# Altium schematic symbol library Analog Devices Amplifiers and Linear Voltage References.SchLib: 547 symbols (part 6 of 20)
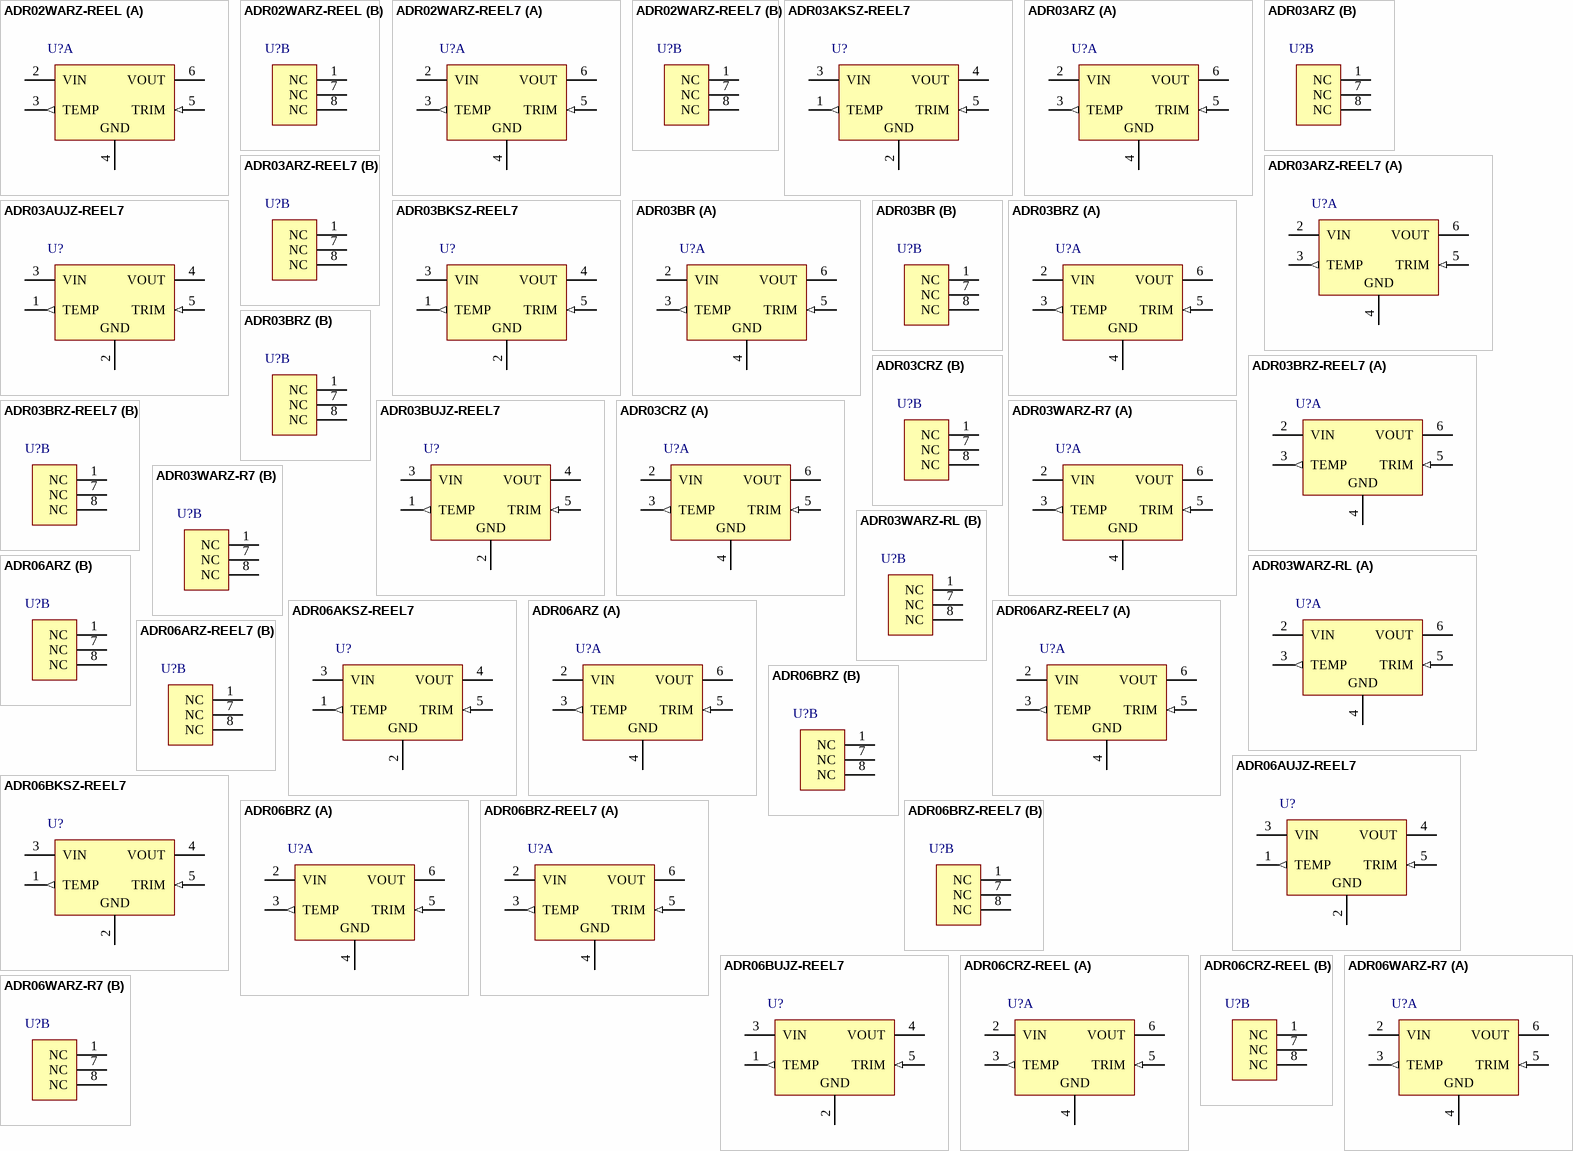
[diagram p25: symbols ADR02WARZ-REEL to ADR06WARZ-R7]

## ADR03BRZ-REEL7
designator U?
Ultracompact, Precision Voltage Reference, 2.5 V Output, 4.5 to 36 V Supply, Industrial, 8-pin SOIC (R-8), Reel; Manufacturer: Analog Devices; PartNumber: ADR03BRZ-REEL7; Max V Supply (V): 36; Min V Supply (V): 4.5; Ref Out TC (ppm/C): 1; Vout: 2.5V; DatasheetVersion: Rev. R; PackageVersion: 060506-A, 06/2006; PackageReference: R-8; PackageDescription: 8-Pin Standard Small Outline Package, Body 4.9 x 3.9 mm, Pitch 1.27 mm; Supplier 1: Digi-Key; Supplier Part Number 1: ADR03BRZ-REEL7-ND; Supplier 2: Mouser; Supplier Part Number 2: 584-ADR03BRZ-R7; Packing: Reel; Operating Temp Range: -40 to 125 degC; Mounting Technology: Surface Mount; Code_JEDEC: MS-012-AA; ComponentLink1Description: Manufacturer URL; ComponentLink1URL: http://www.analog.com/en/index.html; ComponentLink2Description: Datasheet; ComponentLink2URL: http://www.analog.com/static/imported-files/data_sheets/ADR01_02_03_06.pdf; ComponentLink3Description: Package Specification; ComponentLink3URL: http://www.analog.com/static/imported-files/packages/PKG_PDF/SOIC_Narrow%20(R)/R_8.pdf; ComponentLink4Description: URL Link1; ComponentLink4URL: Product URL:http://www.analog.com/en/special-linear-functions/voltage-references/adr03/products/product.html
footprint ADI-R-8_N (SOIC, 8-Leads, Body 4.9x3.9mm, Pitch 1.27mm, IPC Medium Density)
footprint ADI-R-8_L (SOIC, 8-Leads, Body 4.9x3.9mm, Pitch 1.27mm, IPC High Density)
footprint ADI-R-8_M (SOIC, 8-Leads, Body 4.9x3.9mm, Pitch 1.27mm, IPC Low Density)
part A pins: 2 VIN (power), 3 TEMP (out), 4 GND (power), 5 TRIM (in), 6 VOUT (power)
part B pins: 1 NC, 7 NC, 8 NC

## ADR03BUJZ-REEL7
designator U?
Ultracompact, Precision Voltage Reference, 2.5 V Output, 4.5 to 36 V Supply, Industrial, 5-pin SOT23 (UJ-5), Reel; Manufacturer: Analog Devices; PartNumber: ADR03BUJZ-REEL7; Max V Supply (V): 36; Min V Supply (V): 4.5; Ref Out TC (ppm/C): 1; Vout: 2.5V; DatasheetVersion: Rev. R; PackageVersion: 100708-A, 10/2008; PackageReference: UJ-5; PackageDescription: 5-Pin Thin Small Outline Transistor Package, Body 2.9 x 1.6 mm, Pitch 0.95 mm; Supplier 1: Digi-Key; Supplier Part Number 1: ADR03BUJZ-REEL7TR-ND; Supplier 2: Digi-Key; Supplier Part Number 2: ADR03BUJZ-REEL7CT-ND; Supplier 3: Digi-Key; Supplier Part Number 3: ADR03BUJZ-REEL7DKR-ND; Supplier 4: Farnell; Supplier Part Number 4: 2314106; Supplier 5: Farnell; Supplier Part Number 5: 2370358; Supplier 6: Mouser; Supplier Part Number 6: 584-ADR03BUJZ-R7; Packing: Reel; Operating Temp Range: -40 to 125 degC; Mounting Technology: Surface Mount; Code_JEDEC: MO-193-AB; ComponentLink1Description: Manufacturer URL; ComponentLink1URL: http://www.analog.com/en/index.html; ComponentLink2Description: Datasheet; ComponentLink2URL: http://www.analog.com/static/imported-files/data_sheets/ADR01_02_03_06.pdf; ComponentLink3Description: Package Specification; ComponentLink3URL: http:/www.analog.com/static/imported-files/packages/PKG_PDF/TSOT(UJ)/UJ_5.pdf; ComponentLink4Description: URL Link1; ComponentLink4URL: Product URL:http://www.analog.com/en/special-linear-functions/voltage-references/adr03/products/product.html
footprint ADI-UJ-5_N (SOT23, 5-Leads, Body 2.9x1.6mm, Pitch 0.95mm, IPC Medium Density)
footprint ADI-UJ-5_L (SOT23, 5-Leads, Body 2.9x1.6mm, Pitch 0.95mm, IPC High Density)
footprint ADI-UJ-5_M (SOT23, 5-Leads, Body 2.9x1.6mm, Pitch 0.95mm, IPC Low Density)
pins: 1 TEMP (out), 2 GND (power), 3 VIN (power), 4 VOUT (power), 5 TRIM (in)

## ADR03CRZ
designator U?
Ultracompact, Precision Voltage Reference, 2.5 V Output, 4.5 to 36 V Supply, Industrial, 8-pin SOIC (R-8), Tube; Manufacturer: Analog Devices; PartNumber: ADR03CRZ; Max V Supply (V): 36; Min V Supply (V): 4.5; Ref Out TC (ppm/C): 10; Vout: 2.5V; DatasheetVersion: Rev. R; PackageVersion: 060506-A, 06/2006; PackageReference: R-8; PackageDescription: 8-Pin Standard Small Outline Package, Body 4.9 x 3.9 mm, Pitch 1.27 mm; Supplier 1: Mouser; Supplier Part Number 1: N/A; Packing: Tube; Operating Temp Range: -40 to 125 degC; Mounting Technology: Surface Mount; Code_JEDEC: MS-012-AA; ComponentLink1Description: Manufacturer URL; ComponentLink1URL: http://www.analog.com/en/index.html; ComponentLink2Description: Datasheet; ComponentLink2URL: http://www.analog.com/static/imported-files/data_sheets/ADR01_02_03_06.pdf; ComponentLink3Description: Package Specification; ComponentLink3URL: http://www.analog.com/static/imported-files/packages/PKG_PDF/SOIC_Narrow%20(R)/R_8.pdf; ComponentLink4Description: URL Link1; ComponentLink4URL: Product URL:http://www.analog.com/en/special-linear-functions/voltage-references/adr03/products/product.html
footprint ADI-R-8_N (SOIC, 8-Leads, Body 4.9x3.9mm, Pitch 1.27mm, IPC Medium Density)
footprint ADI-R-8_L (SOIC, 8-Leads, Body 4.9x3.9mm, Pitch 1.27mm, IPC High Density)
footprint ADI-R-8_M (SOIC, 8-Leads, Body 4.9x3.9mm, Pitch 1.27mm, IPC Low Density)
part A pins: 2 VIN (power), 3 TEMP (out), 4 GND (power), 5 TRIM (in), 6 VOUT (power)
part B pins: 1 NC, 7 NC, 8 NC

## ADR03WARZ-R7
designator U?
Ultracompact, Precision Voltage Reference, 2.5 V Output, 4.5 to 36 V Supply, Automotive, 8-pin SOIC (R-8), Reel; Manufacturer: Analog Devices; PartNumber: ADR03WARZ-R7; Max V Supply (V): 36; Min V Supply (V): 4.5; Ref Out TC (ppm/C): 3; Vout: 2.5V; DatasheetVersion: Rev. R; PackageVersion: 060506-A, 06/2006; PackageReference: R-8; PackageDescription: 8-Pin Standard Small Outline Package, Body 4.9 x 3.9 mm, Pitch 1.27 mm; Supplier 1: Digi-Key; Supplier Part Number 1: ADR03WARZ-R7TR-ND; Supplier 2: Digi-Key; Supplier Part Number 2: ADR03WARZ-R7CT-ND; Supplier 3: Digi-Key; Supplier Part Number 3: ADR03WARZ-R7DKR-ND; Supplier 4: Mouser; Supplier Part Number 4: 584-ADR03WARZ-R7; Packing: Reel; Operating Temp Range: -40 to 125 degC; Mounting Technology: Surface Mount; Code_JEDEC: MS-012-AA; ComponentLink1Description: Manufacturer URL; ComponentLink1URL: http://www.analog.com/en/index.html; ComponentLink2Description: Datasheet; ComponentLink2URL: http://www.analog.com/static/imported-files/data_sheets/ADR01_02_03_06.pdf; ComponentLink3Description: Package Specification; ComponentLink3URL: http://www.analog.com/static/imported-files/packages/PKG_PDF/SOIC_Narrow%20(R)/R_8.pdf; ComponentLink4Description: URL Link1; ComponentLink4URL: Product URL:http://www.analog.com/en/special-linear-functions/voltage-references/adr03/products/product.html
footprint ADI-R-8_N (SOIC, 8-Leads, Body 4.9x3.9mm, Pitch 1.27mm, IPC Medium Density)
footprint ADI-R-8_L (SOIC, 8-Leads, Body 4.9x3.9mm, Pitch 1.27mm, IPC High Density)
footprint ADI-R-8_M (SOIC, 8-Leads, Body 4.9x3.9mm, Pitch 1.27mm, IPC Low Density)
part A pins: 2 VIN (power), 3 TEMP (out), 4 GND (power), 5 TRIM (in), 6 VOUT (power)
part B pins: 1 NC, 7 NC, 8 NC

## ADR03WARZ-RL
designator U?
Ultracompact, Precision Voltage Reference, 2.5 V Output, 4.5 to 36 V Supply, Automotive, 8-pin SOIC (R-8), Reel; Manufacturer: Analog Devices; PartNumber: ADR03WARZ-RL; Max V Supply (V): 36; Min V Supply (V): 4.5; Ref Out TC (ppm/C): 3; Vout: 2.5V; DatasheetVersion: Rev. R; PackageVersion: 060506-A, 06/2006; PackageReference: R-8; PackageDescription: 8-Pin Standard Small Outline Package, Body 4.9 x 3.9 mm, Pitch 1.27 mm; Supplier 1: Digi-Key; Supplier Part Number 1: ADR03WARZ-RLTR-ND; Supplier 2: Digi-Key; Supplier Part Number 2: ADR03WARZ-RLCT-ND; Supplier 3: Digi-Key; Supplier Part Number 3: ADR03WARZ-RLDKR-ND; Supplier 4: Mouser; Supplier Part Number 4: 584-ADR03WARZ-R; Packing: Reel; Operating Temp Range: -40 to 125 degC; Mounting Technology: Surface Mount; Code_JEDEC: MS-012-AA; ComponentLink1Description: Manufacturer URL; ComponentLink1URL: http://www.analog.com/en/index.html; ComponentLink2Description: Datasheet; ComponentLink2URL: http://www.analog.com/static/imported-files/data_sheets/ADR01_02_03_06.pdf; ComponentLink3Description: Package Specification; ComponentLink3URL: http://www.analog.com/static/imported-files/packages/PKG_PDF/SOIC_Narrow%20(R)/R_8.pdf; ComponentLink4Description: URL Link1; ComponentLink4URL: Product URL:http://www.analog.com/en/special-linear-functions/voltage-references/adr03/products/product.html
footprint ADI-R-8_N (SOIC, 8-Leads, Body 4.9x3.9mm, Pitch 1.27mm, IPC Medium Density)
footprint ADI-R-8_L (SOIC, 8-Leads, Body 4.9x3.9mm, Pitch 1.27mm, IPC High Density)
footprint ADI-R-8_M (SOIC, 8-Leads, Body 4.9x3.9mm, Pitch 1.27mm, IPC Low Density)
part A pins: 2 VIN (power), 3 TEMP (out), 4 GND (power), 5 TRIM (in), 6 VOUT (power)
part B pins: 1 NC, 7 NC, 8 NC

## ADR06AKSZ-REEL7
designator U?
Ultracompact, Precision Voltage Reference, 3 V Output, 5 to 36 V Supply, Industrial, 5-pin SOT23 (KS-5), Reel; Manufacturer: Analog Devices; PartNumber: ADR06AKSZ-REEL7; Max V Supply (V): 36; Min V Supply (V): 5; Ref Out TC (ppm/C): 3; Vout: 3V; DatasheetVersion: Rev. R; PackageVersion: 072809-A, 07/2009; PackageReference: KS-5; PackageDescription: 5-Pin Thin Shrink Small Outline Transistor Package, Body 2 x 1.25 mm, Pitch 0.65 mm; Supplier 1: Digi-Key; Supplier Part Number 1: ADR06AKSZ-REEL7TR-ND; Supplier 2: Digi-Key; Supplier Part Number 2: ADR06AKSZ-REEL7CT-ND; Supplier 3: Digi-Key; Supplier Part Number 3: ADR06AKSZ-REEL7DKR-ND; Supplier 4: Farnell; Supplier Part Number 4: 2312905; Supplier 5: Mouser; Supplier Part Number 5: 584-ADR06AKSZ-R7; Packing: Reel; Operating Temp Range: -40 to 125 degC; Mounting Technology: Surface Mount; Code_JEDEC: MO-203-AA; ComponentLink1Description: Manufacturer URL; ComponentLink1URL: http://www.analog.com/en/index.html; ComponentLink2Description: Datasheet; ComponentLink2URL: http://www.analog.com/static/imported-files/data_sheets/ADR01_02_03_06.pdf; ComponentLink3Description: Package Specification; ComponentLink3URL: http://www.analog.com/static/imported-files/packages/PKG_PDF/SC70(KS)/KS_5.pdf; ComponentLink4Description: URL Link1; ComponentLink4URL: Product URL:http://www.analog.com/en/special-linear-functions/voltage-references/adr06/products/product.html
footprint ADI-KS-5_N (SOT23, 5-Leads, Body 2x1.25mm, Pitch 0.65mm, IPC Medium Density)
footprint ADI-KS-5_L (SOT23, 5-Leads, Body 2x1.25mm, Pitch 0.65mm, IPC High Density)
footprint ADI-KS-5_M (SOT23, 5-Leads, Body 2x1.25mm, Pitch 0.65mm, IPC Low Density)
pins: 1 TEMP (out), 2 GND (power), 3 VIN (power), 4 VOUT (power), 5 TRIM (in)

## ADR06ARZ
designator U?
Ultracompact, Precision Voltage Reference, 3 V Output, 5 to 36 V Supply, Industrial, 8-pin SOIC (R-8), Tube; Manufacturer: Analog Devices; PartNumber: ADR06ARZ; Max V Supply (V): 36; Min V Supply (V): 5; Ref Out TC (ppm/C): 3; Vout: 3V; DatasheetVersion: Rev. R; PackageVersion: 060506-A, 06/2006; PackageReference: R-8; PackageDescription: 8-Pin Standard Small Outline Package, Body 4.9 x 3.9 mm, Pitch 1.27 mm; Supplier 1: Digi-Key; Supplier Part Number 1: ADR06ARZ-ND; Supplier 2: Farnell; Supplier Part Number 2: 2305772; Supplier 3: Mouser; Supplier Part Number 3: 584-ADR06ARZ; Packing: Tube; Operating Temp Range: -40 to 125 degC; Mounting Technology: Surface Mount; Code_JEDEC: MS-012-AA; ComponentLink1Description: Manufacturer URL; ComponentLink1URL: http://www.analog.com/en/index.html; ComponentLink2Description: Datasheet; ComponentLink2URL: http://www.analog.com/static/imported-files/data_sheets/ADR01_02_03_06.pdf; ComponentLink3Description: Package Specification; ComponentLink3URL: http://www.analog.com/static/imported-files/packages/PKG_PDF/SOIC_Narrow%20(R)/R_8.pdf; ComponentLink4Description: URL Link1; ComponentLink4URL: Product URL:http://www.analog.com/en/special-linear-functions/voltage-references/adr06/products/product.html
footprint ADI-R-8_N (SOIC, 8-Leads, Body 4.9x3.9mm, Pitch 1.27mm, IPC Medium Density)
footprint ADI-R-8_L (SOIC, 8-Leads, Body 4.9x3.9mm, Pitch 1.27mm, IPC High Density)
footprint ADI-R-8_M (SOIC, 8-Leads, Body 4.9x3.9mm, Pitch 1.27mm, IPC Low Density)
part A pins: 2 VIN (power), 3 TEMP (out), 4 GND (power), 5 TRIM (in), 6 VOUT (power)
part B pins: 1 NC, 7 NC, 8 NC

## ADR06ARZ-REEL7
designator U?
Ultracompact, Precision Voltage Reference, 3 V Output, 5 to 36 V Supply, Industrial, 8-pin SOIC (R-8), Reel; Manufacturer: Analog Devices; PartNumber: ADR06ARZ-REEL7; Max V Supply (V): 36; Min V Supply (V): 5; Ref Out TC (ppm/C): 3; Vout: 3V; DatasheetVersion: Rev. R; PackageVersion: 060506-A, 06/2006; PackageReference: R-8; PackageDescription: 8-Pin Standard Small Outline Package, Body 4.9 x 3.9 mm, Pitch 1.27 mm; Supplier 1: Digi-Key; Supplier Part Number 1: ADR06ARZ-REEL7TR-ND; Supplier 2: Digi-Key; Supplier Part Number 2: ADR06ARZ-REEL7CT-ND; Supplier 3: Digi-Key; Supplier Part Number 3: ADR06ARZ-REEL7DKR-ND; Supplier 4: Mouser; Supplier Part Number 4: 584-ADR06ARZ-R7; Packing: Reel; Operating Temp Range: -40 to 125 degC; Mounting Technology: Surface Mount; Code_JEDEC: MS-012-AA; ComponentLink1Description: Manufacturer URL; ComponentLink1URL: http://www.analog.com/en/index.html; ComponentLink2Description: Datasheet; ComponentLink2URL: http://www.analog.com/static/imported-files/data_sheets/ADR01_02_03_06.pdf; ComponentLink3Description: Package Specification; ComponentLink3URL: http://www.analog.com/static/imported-files/packages/PKG_PDF/SOIC_Narrow%20(R)/R_8.pdf; ComponentLink4Description: URL Link1; ComponentLink4URL: Product URL:http://www.analog.com/en/special-linear-functions/voltage-references/adr06/products/product.html
footprint ADI-R-8_N (SOIC, 8-Leads, Body 4.9x3.9mm, Pitch 1.27mm, IPC Medium Density)
footprint ADI-R-8_L (SOIC, 8-Leads, Body 4.9x3.9mm, Pitch 1.27mm, IPC High Density)
footprint ADI-R-8_M (SOIC, 8-Leads, Body 4.9x3.9mm, Pitch 1.27mm, IPC Low Density)
part A pins: 2 VIN (power), 3 TEMP (out), 4 GND (power), 5 TRIM (in), 6 VOUT (power)
part B pins: 1 NC, 7 NC, 8 NC

## ADR06AUJZ-REEL7
designator U?
Ultracompact, Precision Voltage Reference, 3 V Output, 5 to 36 V Supply, Industrial, 5-pin SOT23 (UJ-5), Reel; Manufacturer: Analog Devices; PartNumber: ADR06AUJZ-REEL7; Max V Supply (V): 36; Min V Supply (V): 5; Ref Out TC (ppm/C): 3; Vout: 3V; DatasheetVersion: Rev. R; PackageVersion: 100708-A, 10/2008; PackageReference: UJ-5; PackageDescription: 5-Pin Thin Small Outline Transistor Package, Body 2.9 x 1.6 mm, Pitch 0.95 mm; Supplier 1: Digi-Key; Supplier Part Number 1: ADR06AUJZ-REEL7TR-ND; Supplier 2: Digi-Key; Supplier Part Number 2: ADR06AUJZ-REEL7CT-ND; Supplier 3: Digi-Key; Supplier Part Number 3: ADR06AUJZ-REEL7DKR-ND; Supplier 4: Mouser; Supplier Part Number 4: 584-ADR06AUJZ-R7; Packing: Reel; Operating Temp Range: -40 to 125 degC; Mounting Technology: Surface Mount; Code_JEDEC: MO-193-AB; ComponentLink1Description: Manufacturer URL; ComponentLink1URL: http://www.analog.com/en/index.html; ComponentLink2Description: Datasheet; ComponentLink2URL: http://www.analog.com/static/imported-files/data_sheets/ADR01_02_03_06.pdf; ComponentLink3Description: Package Specification; ComponentLink3URL: http:/www.analog.com/static/imported-files/packages/PKG_PDF/TSOT(UJ)/UJ_5.pdf; ComponentLink4Description: URL Link1; ComponentLink4URL: Product URL:http://www.analog.com/en/special-linear-functions/voltage-references/adr06/products/product.html
footprint ADI-UJ-5_N (SOT23, 5-Leads, Body 2.9x1.6mm, Pitch 0.95mm, IPC Medium Density)
footprint ADI-UJ-5_L (SOT23, 5-Leads, Body 2.9x1.6mm, Pitch 0.95mm, IPC High Density)
footprint ADI-UJ-5_M (SOT23, 5-Leads, Body 2.9x1.6mm, Pitch 0.95mm, IPC Low Density)
pins: 1 TEMP (out), 2 GND (power), 3 VIN (power), 4 VOUT (power), 5 TRIM (in)

## ADR06BKSZ-REEL7
designator U?
Ultracompact, Precision Voltage Reference, 3 V Output, 5 to 36 V Supply, Industrial, 5-pin SOT23 (KS-5), Reel; Manufacturer: Analog Devices; PartNumber: ADR06BKSZ-REEL7; Max V Supply (V): 36; Min V Supply (V): 5; Ref Out TC (ppm/C): 1; Vout: 3V; DatasheetVersion: Rev. R; PackageVersion: 072809-A, 07/2009; PackageReference: KS-5; PackageDescription: 5-Pin Thin Shrink Small Outline Transistor Package, Body 2 x 1.25 mm, Pitch 0.65 mm; Supplier 1: Digi-Key; Supplier Part Number 1: ADR06BKSZ-REEL7TR-ND; Supplier 2: Digi-Key; Supplier Part Number 2: ADR06BKSZ-REEL7CT-ND; Supplier 3: Digi-Key; Supplier Part Number 3: ADR06BKSZ-REEL7DKR-ND; Supplier 4: Farnell; Supplier Part Number 4: 2314107; Supplier 5: Mouser; Supplier Part Number 5: 584-ADR06BKSZ-R7; Packing: Reel; Operating Temp Range: -40 to 125 degC; Mounting Technology: Surface Mount; Code_JEDEC: MO-203-AA; ComponentLink1Description: Manufacturer URL; ComponentLink1URL: http://www.analog.com/en/index.html; ComponentLink2Description: Datasheet; ComponentLink2URL: http://www.analog.com/static/imported-files/data_sheets/ADR01_02_03_06.pdf; ComponentLink3Description: Package Specification; ComponentLink3URL: http://www.analog.com/static/imported-files/packages/PKG_PDF/SC70(KS)/KS_5.pdf; ComponentLink4Description: URL Link1; ComponentLink4URL: Product URL:http://www.analog.com/en/special-linear-functions/voltage-references/adr06/products/product.html
footprint ADI-KS-5_N (SOT23, 5-Leads, Body 2x1.25mm, Pitch 0.65mm, IPC Medium Density)
footprint ADI-KS-5_L (SOT23, 5-Leads, Body 2x1.25mm, Pitch 0.65mm, IPC High Density)
footprint ADI-KS-5_M (SOT23, 5-Leads, Body 2x1.25mm, Pitch 0.65mm, IPC Low Density)
pins: 1 TEMP (out), 2 GND (power), 3 VIN (power), 4 VOUT (power), 5 TRIM (in)

## ADR06BRZ
designator U?
Ultracompact, Precision Voltage Reference, 3 V Output, 5 to 36 V Supply, Industrial, 8-pin SOIC (R-8), Tube; Manufacturer: Analog Devices; PartNumber: ADR06BRZ; Max V Supply (V): 36; Min V Supply (V): 5; Ref Out TC (ppm/C): 1; Vout: 3V; DatasheetVersion: Rev. R; PackageVersion: 060506-A, 06/2006; PackageReference: R-8; PackageDescription: 8-Pin Standard Small Outline Package, Body 4.9 x 3.9 mm, Pitch 1.27 mm; Supplier 1: Digi-Key; Supplier Part Number 1: ADR06BRZ-ND; Supplier 2: Mouser; Supplier Part Number 2: 584-ADR06BRZ; Packing: Tube; Operating Temp Range: -40 to 125 degC; Mounting Technology: Surface Mount; Code_JEDEC: MS-012-AA; ComponentLink1Description: Manufacturer URL; ComponentLink1URL: http://www.analog.com/en/index.html; ComponentLink2Description: Datasheet; ComponentLink2URL: http://www.analog.com/static/imported-files/data_sheets/ADR01_02_03_06.pdf; ComponentLink3Description: Package Specification; ComponentLink3URL: http://www.analog.com/static/imported-files/packages/PKG_PDF/SOIC_Narrow%20(R)/R_8.pdf; ComponentLink4Description: URL Link1; ComponentLink4URL: Product URL:http://www.analog.com/en/special-linear-functions/voltage-references/adr06/products/product.html
footprint ADI-R-8_N (SOIC, 8-Leads, Body 4.9x3.9mm, Pitch 1.27mm, IPC Medium Density)
footprint ADI-R-8_L (SOIC, 8-Leads, Body 4.9x3.9mm, Pitch 1.27mm, IPC High Density)
footprint ADI-R-8_M (SOIC, 8-Leads, Body 4.9x3.9mm, Pitch 1.27mm, IPC Low Density)
part A pins: 2 VIN (power), 3 TEMP (out), 4 GND (power), 5 TRIM (in), 6 VOUT (power)
part B pins: 1 NC, 7 NC, 8 NC

## ADR06BRZ-REEL7
designator U?
Ultracompact, Precision Voltage Reference, 3 V Output, 5 to 36 V Supply, Industrial, 8-pin SOIC (R-8), Reel; Manufacturer: Analog Devices; PartNumber: ADR06BRZ-REEL7; Max V Supply (V): 36; Min V Supply (V): 5; Ref Out TC (ppm/C): 1; Vout: 3V; DatasheetVersion: Rev. R; PackageVersion: 060506-A, 06/2006; PackageReference: R-8; PackageDescription: 8-Pin Standard Small Outline Package, Body 4.9 x 3.9 mm, Pitch 1.27 mm; Supplier 1: Digi-Key; Supplier Part Number 1: ADR06BRZ-REEL7-ND; Supplier 2: Mouser; Supplier Part Number 2: 584-ADR06BRZ-R7; Packing: Reel; Operating Temp Range: -40 to 125 degC; Mounting Technology: Surface Mount; Code_JEDEC: MS-012-AA; ComponentLink1Description: Manufacturer URL; ComponentLink1URL: http://www.analog.com/en/index.html; ComponentLink2Description: Datasheet; ComponentLink2URL: http://www.analog.com/static/imported-files/data_sheets/ADR01_02_03_06.pdf; ComponentLink3Description: Package Specification; ComponentLink3URL: http://www.analog.com/static/imported-files/packages/PKG_PDF/SOIC_Narrow%20(R)/R_8.pdf; ComponentLink4Description: URL Link1; ComponentLink4URL: Product URL:http://www.analog.com/en/special-linear-functions/voltage-references/adr06/products/product.html
footprint ADI-R-8_N (SOIC, 8-Leads, Body 4.9x3.9mm, Pitch 1.27mm, IPC Medium Density)
footprint ADI-R-8_L (SOIC, 8-Leads, Body 4.9x3.9mm, Pitch 1.27mm, IPC High Density)
footprint ADI-R-8_M (SOIC, 8-Leads, Body 4.9x3.9mm, Pitch 1.27mm, IPC Low Density)
part A pins: 2 VIN (power), 3 TEMP (out), 4 GND (power), 5 TRIM (in), 6 VOUT (power)
part B pins: 1 NC, 7 NC, 8 NC

## ADR06BUJZ-REEL7
designator U?
Ultracompact, Precision Voltage Reference, 3 V Output, 5 to 36 V Supply, Industrial, 5-pin SOT23 (UJ-5), Reel; Manufacturer: Analog Devices; PartNumber: ADR06BUJZ-REEL7; Max V Supply (V): 36; Min V Supply (V): 5; Ref Out TC (ppm/C): 1; Vout: 3V; DatasheetVersion: Rev. R; PackageVersion: 100708-A, 10/2008; PackageReference: UJ-5; PackageDescription: 5-Pin Thin Small Outline Transistor Package, Body 2.9 x 1.6 mm, Pitch 0.95 mm; Supplier 1: Digi-Key; Supplier Part Number 1: ADR06BUJZ-REEL7TR-ND; Supplier 2: Digi-Key; Supplier Part Number 2: ADR06BUJZ-REEL7CT-ND; Supplier 3: Digi-Key; Supplier Part Number 3: ADR06BUJZ-REEL7DKR-ND; Supplier 4: Mouser; Supplier Part Number 4: 584-ADR06BUJZ-R7; Packing: Reel; Operating Temp Range: -40 to 125 degC; Mounting Technology: Surface Mount; Code_JEDEC: MO-193-AB; ComponentLink1Description: Manufacturer URL; ComponentLink1URL: http://www.analog.com/en/index.html; ComponentLink2Description: Datasheet; ComponentLink2URL: http://www.analog.com/static/imported-files/data_sheets/ADR01_02_03_06.pdf; ComponentLink3Description: Package Specification; ComponentLink3URL: http:/www.analog.com/static/imported-files/packages/PKG_PDF/TSOT(UJ)/UJ_5.pdf; ComponentLink4Description: URL Link1; ComponentLink4URL: Product URL:http://www.analog.com/en/special-linear-functions/voltage-references/adr06/products/product.html
footprint ADI-UJ-5_N (SOT23, 5-Leads, Body 2.9x1.6mm, Pitch 0.95mm, IPC Medium Density)
footprint ADI-UJ-5_L (SOT23, 5-Leads, Body 2.9x1.6mm, Pitch 0.95mm, IPC High Density)
footprint ADI-UJ-5_M (SOT23, 5-Leads, Body 2.9x1.6mm, Pitch 0.95mm, IPC Low Density)
pins: 1 TEMP (out), 2 GND (power), 3 VIN (power), 4 VOUT (power), 5 TRIM (in)

## ADR06CRZ-REEL
designator U?
Ultracompact, Precision Voltage Reference, 3 V Output, 5 to 36 V Supply, Industrial, 8-pin SOIC (R-8), Reel; Manufacturer: Analog Devices; PartNumber: ADR06CRZ-REEL; Max V Supply (V): 36; Min V Supply (V): 5; Ref Out TC (ppm/C): 10; Vout: 3V; DatasheetVersion: Rev. R; PackageVersion: 060506-A, 06/2006; PackageReference: R-8; PackageDescription: 8-Pin Standard Small Outline Package, Body 4.9 x 3.9 mm, Pitch 1.27 mm; Supplier 1: Digi-Key; Supplier Part Number 1: ADR06CRZ-REELTR-ND; Supplier 2: Digi-Key; Supplier Part Number 2: ADR06CRZ-REELCT-ND; Supplier 3: Digi-Key; Supplier Part Number 3: ADR06CRZ-REELDKR-ND; Supplier 4: Mouser; Supplier Part Number 4: 584-ADR06CRZ-R; Packing: Reel; Operating Temp Range: -40 to 125 degC; Mounting Technology: Surface Mount; Code_JEDEC: MS-012-AA; ComponentLink1Description: Manufacturer URL; ComponentLink1URL: http://www.analog.com/en/index.html; ComponentLink2Description: Datasheet; ComponentLink2URL: http://www.analog.com/static/imported-files/data_sheets/ADR01_02_03_06.pdf; ComponentLink3Description: Package Specification; ComponentLink3URL: http://www.analog.com/static/imported-files/packages/PKG_PDF/SOIC_Narrow%20(R)/R_8.pdf; ComponentLink4Description: URL Link1; ComponentLink4URL: Product URL:http://www.analog.com/en/special-linear-functions/voltage-references/adr06/products/product.html
footprint ADI-R-8_N (SOIC, 8-Leads, Body 4.9x3.9mm, Pitch 1.27mm, IPC Medium Density)
footprint ADI-R-8_L (SOIC, 8-Leads, Body 4.9x3.9mm, Pitch 1.27mm, IPC High Density)
footprint ADI-R-8_M (SOIC, 8-Leads, Body 4.9x3.9mm, Pitch 1.27mm, IPC Low Density)
part A pins: 2 VIN (power), 3 TEMP (out), 4 GND (power), 5 TRIM (in), 6 VOUT (power)
part B pins: 1 NC, 7 NC, 8 NC

## ADR06WARZ-R7
designator U?
Ultracompact, Precision Voltage Reference, 3 V Output, 5 to 36 V Supply, Automotive, 8-pin SOIC (R-8), Reel; Manufacturer: Analog Devices; PartNumber: ADR06WARZ-R7; Max V Supply (V): 36; Min V Supply (V): 5; Ref Out TC (ppm/C): 3; Vout: 3V; DatasheetVersion: Rev. R; PackageVersion: 060506-A, 06/2006; PackageReference: R-8; PackageDescription: 8-Pin Standard Small Outline Package, Body 4.9 x 3.9 mm, Pitch 1.27 mm; Supplier 1: Digi-Key; Supplier Part Number 1: ADR06WARZ-R7TR-ND; Supplier 2: Digi-Key; Supplier Part Number 2: ADR06WARZ-R7CT-ND; Supplier 3: Digi-Key; Supplier Part Number 3: ADR06WARZ-R7DKR-ND; Supplier 4: Mouser; Supplier Part Number 4: 584-ADR06WARZ-R7; Packing: Reel; Operating Temp Range: -40 to 125 degC; Mounting Technology: Surface Mount; Code_JEDEC: MS-012-AA; ComponentLink1Description: Manufacturer URL; ComponentLink1URL: http://www.analog.com/en/index.html; ComponentLink2Description: Datasheet; ComponentLink2URL: http://www.analog.com/static/imported-files/data_sheets/ADR01_02_03_06.pdf; ComponentLink3Description: Package Specification; ComponentLink3URL: http://www.analog.com/static/imported-files/packages/PKG_PDF/SOIC_Narrow%20(R)/R_8.pdf; ComponentLink4Description: URL Link1; ComponentLink4URL: Product URL:http://www.analog.com/en/special-linear-functions/voltage-references/adr06/products/product.html
footprint ADI-R-8_N (SOIC, 8-Leads, Body 4.9x3.9mm, Pitch 1.27mm, IPC Medium Density)
footprint ADI-R-8_L (SOIC, 8-Leads, Body 4.9x3.9mm, Pitch 1.27mm, IPC High Density)
footprint ADI-R-8_M (SOIC, 8-Leads, Body 4.9x3.9mm, Pitch 1.27mm, IPC Low Density)
part A pins: 2 VIN (power), 3 TEMP (out), 4 GND (power), 5 TRIM (in), 6 VOUT (power)
part B pins: 1 NC, 7 NC, 8 NC

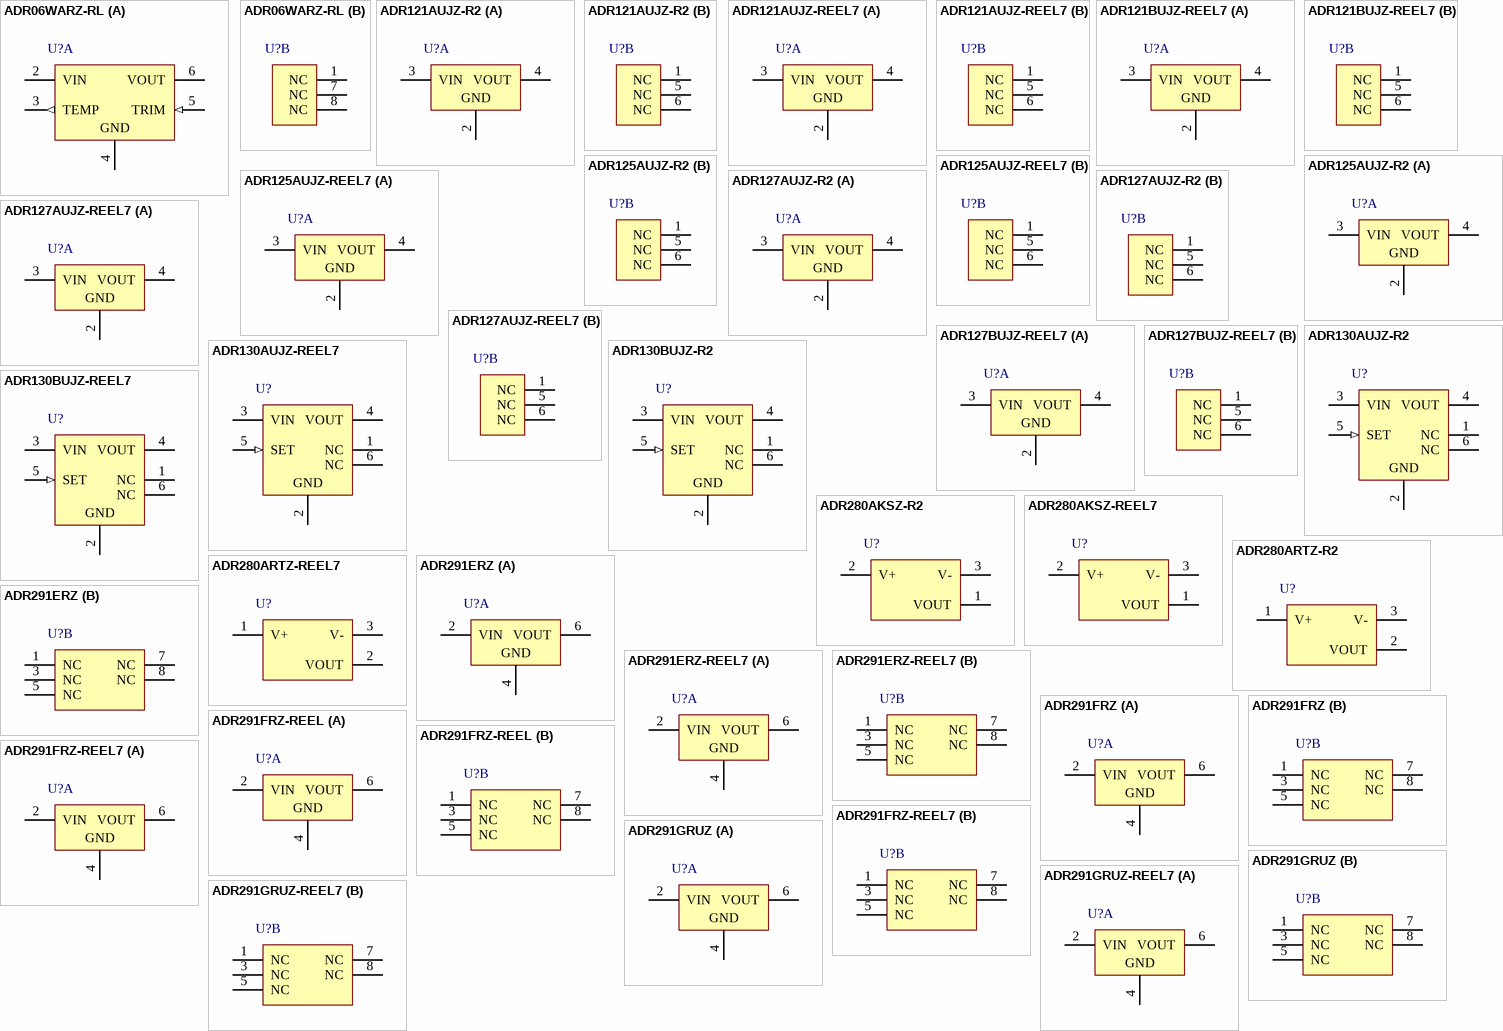
[diagram p6: symbols ADR06WARZ-RL to ADR291GRUZ-REEL7]

## ADR06WARZ-RL
designator U?
Ultracompact, Precision Voltage Reference, 3 V Output, 5 to 36 V Supply, Automotive, 8-pin SOIC (R-8), Reel; Manufacturer: Analog Devices; PartNumber: ADR06WARZ-RL; Max V Supply (V): 36; Min V Supply (V): 5; Ref Out TC (ppm/C): 3; Vout: 3V; DatasheetVersion: Rev. R; PackageVersion: 060506-A, 06/2006; PackageReference: R-8; PackageDescription: 8-Pin Standard Small Outline Package, Body 4.9 x 3.9 mm, Pitch 1.27 mm; Supplier 1: Digi-Key; Supplier Part Number 1: ADR06WARZ-RLTR-ND; Supplier 2: Digi-Key; Supplier Part Number 2: ADR06WARZ-RLCT-ND; Supplier 3: Digi-Key; Supplier Part Number 3: ADR06WARZ-RLDKR-ND; Supplier 4: Mouser; Supplier Part Number 4: 584-ADR06WARZ-R; Packing: Reel; Operating Temp Range: -40 to 125 degC; Mounting Technology: Surface Mount; Code_JEDEC: MS-012-AA; ComponentLink1Description: Manufacturer URL; ComponentLink1URL: http://www.analog.com/en/index.html; ComponentLink2Description: Datasheet; ComponentLink2URL: http://www.analog.com/static/imported-files/data_sheets/ADR01_02_03_06.pdf; ComponentLink3Description: Package Specification; ComponentLink3URL: http://www.analog.com/static/imported-files/packages/PKG_PDF/SOIC_Narrow%20(R)/R_8.pdf; ComponentLink4Description: URL Link1; ComponentLink4URL: Product URL:http://www.analog.com/en/special-linear-functions/voltage-references/adr06/products/product.html
footprint ADI-R-8_N (SOIC, 8-Leads, Body 4.9x3.9mm, Pitch 1.27mm, IPC Medium Density)
footprint ADI-R-8_L (SOIC, 8-Leads, Body 4.9x3.9mm, Pitch 1.27mm, IPC High Density)
footprint ADI-R-8_M (SOIC, 8-Leads, Body 4.9x3.9mm, Pitch 1.27mm, IPC Low Density)
part A pins: 2 VIN (power), 3 TEMP (out), 4 GND (power), 5 TRIM (in), 6 VOUT (power)
part B pins: 1 NC, 7 NC, 8 NC

## ADR121AUJZ-R2
designator U?
Precision, Micropower LDO Voltage Reference, 2.5 V Output, 2.8 to 18 V Supply, Industrial, 6-pin SOT23 (UJ-6), Reel; Manufacturer: Analog Devices; PartNumber: ADR121AUJZ-R2; Max V Supply (V): 18; Min V Supply (V): 2.8; Ref Out TC (ppm/C): 15; Vout: 2.5V; DatasheetVersion: Rev. B; PackageVersion: Dec-04; PackageReference: UJ-6; PackageDescription: 6-Pin Thin Small Outline Transistor Package, Body 2.9 x 1.6 mm, Pitch 0.95 mm; Supplier 1: Digi-Key; Supplier Part Number 1: ADR121AUJZ-R2-ND; Supplier 2: Farnell; Supplier Part Number 2: 2074899RL; Supplier 3: Farnell; Supplier Part Number 3: 2074899; Supplier 4: Mouser; Supplier Part Number 4: N/A; Packing: Reel; Operating Temp Range: -40 to 125 degC; Mounting Technology: Surface Mount; Code_JEDEC: MO-193-AA; ComponentLink1Description: Manufacturer URL; ComponentLink1URL: http://www.analog.com/en/index.html; ComponentLink2Description: Datasheet; ComponentLink2URL: http://www.analog.com/static/imported-files/data_sheets/ADR121_125_127.pdf; ComponentLink3Description: Package Specification; ComponentLink3URL: http://www.analog.com/static/imported-files/packages/PKG_PDF/TSOT(UJ)/UJ_6.pdf; ComponentLink4Description: URL Link1; ComponentLink4URL: Product URL:http://www.analog.com/en/special-linear-functions/voltage-references/adr121/products/product.html
footprint ADI-UJ-6_N (SOT23, 6-Leads, Body 2.9x1.6mm, Pitch 0.95mm, IPC Medium Density)
footprint ADI-UJ-6_L (SOT23, 6-Leads, Body 2.9x1.6mm, Pitch 0.95mm, IPC High Density)
footprint ADI-UJ-6_M (SOT23, 6-Leads, Body 2.9x1.6mm, Pitch 0.95mm, IPC Low Density)
part A pins: 2 GND (power), 3 VIN (power), 4 VOUT (power)
part B pins: 1 NC, 5 NC, 6 NC

## ADR121AUJZ-REEL7
designator U?
Precision, Micropower LDO Voltage Reference, 2.5 V Output, 2.8 to 18 V Supply, Industrial, 6-pin SOT23 (UJ-6), Reel; Manufacturer: Analog Devices; PartNumber: ADR121AUJZ-REEL7; Max V Supply (V): 18; Min V Supply (V): 2.8; Ref Out TC (ppm/C): 15; Vout: 2.5V; DatasheetVersion: Rev. B; PackageVersion: Dec-04; PackageReference: UJ-6; PackageDescription: 6-Pin Thin Small Outline Transistor Package, Body 2.9 x 1.6 mm, Pitch 0.95 mm; Supplier 1: Digi-Key; Supplier Part Number 1: ADR121AUJZ-REEL7TR-ND; Supplier 2: Digi-Key; Supplier Part Number 2: ADR121AUJZ-REEL7CT-ND; Supplier 3: Digi-Key; Supplier Part Number 3: ADR121AUJZ-REEL7DKR-ND; Supplier 4: Mouser; Supplier Part Number 4: N/A; Packing: Reel; Operating Temp Range: -40 to 125 degC; Mounting Technology: Surface Mount; Code_JEDEC: MO-193-AA; ComponentLink1Description: Manufacturer URL; ComponentLink1URL: http://www.analog.com/en/index.html; ComponentLink2Description: Datasheet; ComponentLink2URL: http://www.analog.com/static/imported-files/data_sheets/ADR121_125_127.pdf; ComponentLink3Description: Package Specification; ComponentLink3URL: http://www.analog.com/static/imported-files/packages/PKG_PDF/TSOT(UJ)/UJ_6.pdf; ComponentLink4Description: URL Link1; ComponentLink4URL: Product URL:http://www.analog.com/en/special-linear-functions/voltage-references/adr121/products/product.html
footprint ADI-UJ-6_N (SOT23, 6-Leads, Body 2.9x1.6mm, Pitch 0.95mm, IPC Medium Density)
footprint ADI-UJ-6_L (SOT23, 6-Leads, Body 2.9x1.6mm, Pitch 0.95mm, IPC High Density)
footprint ADI-UJ-6_M (SOT23, 6-Leads, Body 2.9x1.6mm, Pitch 0.95mm, IPC Low Density)
part A pins: 2 GND (power), 3 VIN (power), 4 VOUT (power)
part B pins: 1 NC, 5 NC, 6 NC

## ADR121BUJZ-REEL7
designator U?
Precision, Micropower LDO Voltage Reference, 2.5 V Output, 2.8 to 18 V Supply, Industrial, 6-pin SOT23 (UJ-6), Reel; Manufacturer: Analog Devices; PartNumber: ADR121BUJZ-REEL7; Max V Supply (V): 18; Min V Supply (V): 2.8; Ref Out TC (ppm/C): 3; Vout: 2.5V; DatasheetVersion: Rev. B; PackageVersion: Dec-04; PackageReference: UJ-6; PackageDescription: 6-Pin Thin Small Outline Transistor Package, Body 2.9 x 1.6 mm, Pitch 0.95 mm; Supplier 1: Digi-Key; Supplier Part Number 1: ADR121BUJZ-REEL7TR-ND; Supplier 2: Digi-Key; Supplier Part Number 2: ADR121BUJZ-REEL7CT-ND; Supplier 3: Digi-Key; Supplier Part Number 3: ADR121BUJZ-REEL7DKR-ND; Supplier 4: Mouser; Supplier Part Number 4: N/A; Packing: Reel; Operating Temp Range: -40 to 125 degC; Mounting Technology: Surface Mount; Code_JEDEC: MO-193-AA; ComponentLink1Description: Manufacturer URL; ComponentLink1URL: http://www.analog.com/en/index.html; ComponentLink2Description: Datasheet; ComponentLink2URL: http://www.analog.com/static/imported-files/data_sheets/ADR121_125_127.pdf; ComponentLink3Description: Package Specification; ComponentLink3URL: http://www.analog.com/static/imported-files/packages/PKG_PDF/TSOT(UJ)/UJ_6.pdf; ComponentLink4Description: URL Link1; ComponentLink4URL: Product URL:http://www.analog.com/en/special-linear-functions/voltage-references/adr121/products/product.html
footprint ADI-UJ-6_N (SOT23, 6-Leads, Body 2.9x1.6mm, Pitch 0.95mm, IPC Medium Density)
footprint ADI-UJ-6_L (SOT23, 6-Leads, Body 2.9x1.6mm, Pitch 0.95mm, IPC High Density)
footprint ADI-UJ-6_M (SOT23, 6-Leads, Body 2.9x1.6mm, Pitch 0.95mm, IPC Low Density)
part A pins: 2 GND (power), 3 VIN (power), 4 VOUT (power)
part B pins: 1 NC, 5 NC, 6 NC

## ADR125AUJZ-R2
designator U?
Precision, Micropower LDO Voltage Reference in TSOT, 5 V Output, 5.3 to 18 V Supply, Industrial, 6-pin SOT23 (UJ-6), Reel; Manufacturer: Analog Devices; PartNumber: ADR125AUJZ-R2; Max V Supply (V): 18; Min V Supply (V): 5.3; Ref Out TC (ppm/C): 15; Vout: 5V; DatasheetVersion: Rev. B; PackageVersion: Dec-04; PackageReference: UJ-6; PackageDescription: 6-Pin Thin Small Outline Transistor Package, Body 2.9 x 1.6 mm, Pitch 0.95 mm; Supplier 1: Digi-Key; Supplier Part Number 1: ADR125AUJZ-R2-ND; Supplier 2: Mouser; Supplier Part Number 2: N/A; Packing: Reel; Operating Temp Range: -40 to 125 degC; Mounting Technology: Surface Mount; Code_JEDEC: MO-193-AA; ComponentLink1Description: Manufacturer URL; ComponentLink1URL: http://www.analog.com/en/index.html; ComponentLink2Description: Datasheet; ComponentLink2URL: http://www.analog.com/static/imported-files/data_sheets/ADR121_125_127.pdf; ComponentLink3Description: Package Specification; ComponentLink3URL: http://www.analog.com/static/imported-files/packages/PKG_PDF/TSOT(UJ)/UJ_6.pdf; ComponentLink4Description: URL Link1; ComponentLink4URL: Product URL:http://www.analog.com/en/special-linear-functions/voltage-references/adr125/products/product.html
footprint ADI-UJ-6_N (SOT23, 6-Leads, Body 2.9x1.6mm, Pitch 0.95mm, IPC Medium Density)
footprint ADI-UJ-6_L (SOT23, 6-Leads, Body 2.9x1.6mm, Pitch 0.95mm, IPC High Density)
footprint ADI-UJ-6_M (SOT23, 6-Leads, Body 2.9x1.6mm, Pitch 0.95mm, IPC Low Density)
part A pins: 2 GND (power), 3 VIN (power), 4 VOUT (power)
part B pins: 1 NC, 5 NC, 6 NC

## ADR125AUJZ-REEL7
designator U?
Precision, Micropower LDO Voltage Reference in TSOT, 5 V Output, 5.3 to 18 V Supply, Industrial, 6-pin SOT23 (UJ-6), Reel; Manufacturer: Analog Devices; PartNumber: ADR125AUJZ-REEL7; Max V Supply (V): 18; Min V Supply (V): 5.3; Ref Out TC (ppm/C): 15; Vout: 5V; DatasheetVersion: Rev. B; PackageVersion: Dec-04; PackageReference: UJ-6; PackageDescription: 6-Pin Thin Small Outline Transistor Package, Body 2.9 x 1.6 mm, Pitch 0.95 mm; Supplier 1: Digi-Key; Supplier Part Number 1: ADR125AUJZ-REEL7TR-ND; Supplier 2: Digi-Key; Supplier Part Number 2: ADR125AUJZ-REEL7CT-ND; Supplier 3: Digi-Key; Supplier Part Number 3: ADR125AUJZ-REEL7DKR-ND; Supplier 4: Mouser; Supplier Part Number 4: N/A; Packing: Reel; Operating Temp Range: -40 to 125 degC; Mounting Technology: Surface Mount; Code_JEDEC: MO-193-AA; ComponentLink1Description: Manufacturer URL; ComponentLink1URL: http://www.analog.com/en/index.html; ComponentLink2Description: Datasheet; ComponentLink2URL: http://www.analog.com/static/imported-files/data_sheets/ADR121_125_127.pdf; ComponentLink3Description: Package Specification; ComponentLink3URL: http://www.analog.com/static/imported-files/packages/PKG_PDF/TSOT(UJ)/UJ_6.pdf; ComponentLink4Description: URL Link1; ComponentLink4URL: Product URL:http://www.analog.com/en/special-linear-functions/voltage-references/adr125/products/product.html
footprint ADI-UJ-6_N (SOT23, 6-Leads, Body 2.9x1.6mm, Pitch 0.95mm, IPC Medium Density)
footprint ADI-UJ-6_L (SOT23, 6-Leads, Body 2.9x1.6mm, Pitch 0.95mm, IPC High Density)
footprint ADI-UJ-6_M (SOT23, 6-Leads, Body 2.9x1.6mm, Pitch 0.95mm, IPC Low Density)
part A pins: 2 GND (power), 3 VIN (power), 4 VOUT (power)
part B pins: 1 NC, 5 NC, 6 NC

## ADR127AUJZ-R2
designator U?
Precision, Micropower LDO Voltage Reference in TSOT, 1.25 V Output, 2.7 to 18 V Supply, Industrial, 6-pin SOT23 (UJ-6), Reel; Manufacturer: Analog Devices; PartNumber: ADR127AUJZ-R2; Max V Supply (V): 18; Min V Supply (V): 2.7; Ref Out TC (ppm/C): 15; Vout: 1.25V; DatasheetVersion: Rev. B; PackageVersion: Dec-04; PackageReference: UJ-6; PackageDescription: 6-Pin Thin Small Outline Transistor Package, Body 2.9 x 1.6 mm, Pitch 0.95 mm; Supplier 1: Digi-Key; Supplier Part Number 1: ADR127AUJZ-R2TR-ND; Supplier 2: Digi-Key; Supplier Part Number 2: ADR127AUJZ-R2CT-ND; Supplier 3: Digi-Key; Supplier Part Number 3: ADR127AUJZ-R2DKR-ND; Supplier 4: Farnell; Supplier Part Number 4: 1699547; Supplier 5: Mouser; Supplier Part Number 5: 584-ADR127AUJZ-R2; Packing: Reel; Operating Temp Range: -40 to 125 degC; Mounting Technology: Surface Mount; Code_JEDEC: MO-193-AA; ComponentLink1Description: Manufacturer URL; ComponentLink1URL: http://www.analog.com/en/index.html; ComponentLink2Description: Datasheet; ComponentLink2URL: http://www.analog.com/static/imported-files/data_sheets/ADR121_125_127.pdf; ComponentLink3Description: Package Specification; ComponentLink3URL: http://www.analog.com/static/imported-files/packages/PKG_PDF/TSOT(UJ)/UJ_6.pdf; ComponentLink4Description: URL Link1; ComponentLink4URL: Product URL:http://www.analog.com/en/special-linear-functions/voltage-references/adr127/products/product.html
footprint ADI-UJ-6_N (SOT23, 6-Leads, Body 2.9x1.6mm, Pitch 0.95mm, IPC Medium Density)
footprint ADI-UJ-6_L (SOT23, 6-Leads, Body 2.9x1.6mm, Pitch 0.95mm, IPC High Density)
footprint ADI-UJ-6_M (SOT23, 6-Leads, Body 2.9x1.6mm, Pitch 0.95mm, IPC Low Density)
part A pins: 2 GND (power), 3 VIN (power), 4 VOUT (power)
part B pins: 1 NC, 5 NC, 6 NC

## ADR127AUJZ-REEL7
designator U?
Precision, Micropower LDO Voltage Reference in TSOT, 1.25 V Output, 2.7 to 18 V Supply, Industrial, 6-pin SOT23 (UJ-6), Reel; Manufacturer: Analog Devices; PartNumber: ADR127AUJZ-REEL7; Max V Supply (V): 18; Min V Supply (V): 2.7; Ref Out TC (ppm/C): 15; Vout: 1.25V; DatasheetVersion: Rev. B; PackageVersion: Dec-04; PackageReference: UJ-6; PackageDescription: 6-Pin Thin Small Outline Transistor Package, Body 2.9 x 1.6 mm, Pitch 0.95 mm; Supplier 1: Digi-Key; Supplier Part Number 1: ADR127AUJZ-REEL7TR-ND; Supplier 2: Digi-Key; Supplier Part Number 2: ADR127AUJZ-REEL7CT-ND; Supplier 3: Digi-Key; Supplier Part Number 3: ADR127AUJZ-REEL7DKR-ND; Supplier 4: Mouser; Supplier Part Number 4: 584-ADR127AUJZ-R7; Packing: Reel; Operating Temp Range: -40 to 125 degC; Mounting Technology: Surface Mount; Code_JEDEC: MO-193-AA; ComponentLink1Description: Manufacturer URL; ComponentLink1URL: http://www.analog.com/en/index.html; ComponentLink2Description: Datasheet; ComponentLink2URL: http://www.analog.com/static/imported-files/data_sheets/ADR121_125_127.pdf; ComponentLink3Description: Package Specification; ComponentLink3URL: http://www.analog.com/static/imported-files/packages/PKG_PDF/TSOT(UJ)/UJ_6.pdf; ComponentLink4Description: URL Link1; ComponentLink4URL: Product URL:http://www.analog.com/en/special-linear-functions/voltage-references/adr127/products/product.html
footprint ADI-UJ-6_N (SOT23, 6-Leads, Body 2.9x1.6mm, Pitch 0.95mm, IPC Medium Density)
footprint ADI-UJ-6_L (SOT23, 6-Leads, Body 2.9x1.6mm, Pitch 0.95mm, IPC High Density)
footprint ADI-UJ-6_M (SOT23, 6-Leads, Body 2.9x1.6mm, Pitch 0.95mm, IPC Low Density)
part A pins: 2 GND (power), 3 VIN (power), 4 VOUT (power)
part B pins: 1 NC, 5 NC, 6 NC

## ADR127BUJZ-REEL7
designator U?
Precision, Micropower LDO Voltage Reference in TSOT, 1.25 V Output, 2.7 to 18 V Supply, Industrial, 6-pin SOT23 (UJ-6), Reel; Manufacturer: Analog Devices; PartNumber: ADR127BUJZ-REEL7; Max V Supply (V): 18; Min V Supply (V): 2.7; Ref Out TC (ppm/C): 3; Vout: 1.25V; DatasheetVersion: Rev. B; PackageVersion: Dec-04; PackageReference: UJ-6; PackageDescription: 6-Pin Thin Small Outline Transistor Package, Body 2.9 x 1.6 mm, Pitch 0.95 mm; Supplier 1: Digi-Key; Supplier Part Number 1: ADR127BUJZ-REEL7TR-ND; Supplier 2: Digi-Key; Supplier Part Number 2: ADR127BUJZ-REEL7CT-ND; Supplier 3: Digi-Key; Supplier Part Number 3: ADR127BUJZ-REEL7DKR-ND; Supplier 4: Farnell; Supplier Part Number 4: 2312969; Supplier 5: Mouser; Supplier Part Number 5: 584-ADR127BUJZ-R7; Packing: Reel; Operating Temp Range: -40 to 125 degC; Mounting Technology: Surface Mount; Code_JEDEC: MO-193-AA; ComponentLink1Description: Manufacturer URL; ComponentLink1URL: http://www.analog.com/en/index.html; ComponentLink2Description: Datasheet; ComponentLink2URL: http://www.analog.com/static/imported-files/data_sheets/ADR121_125_127.pdf; ComponentLink3Description: Package Specification; ComponentLink3URL: http://www.analog.com/static/imported-files/packages/PKG_PDF/TSOT(UJ)/UJ_6.pdf; ComponentLink4Description: URL Link1; ComponentLink4URL: Product URL:http://www.analog.com/en/special-linear-functions/voltage-references/adr127/products/product.html
footprint ADI-UJ-6_N (SOT23, 6-Leads, Body 2.9x1.6mm, Pitch 0.95mm, IPC Medium Density)
footprint ADI-UJ-6_L (SOT23, 6-Leads, Body 2.9x1.6mm, Pitch 0.95mm, IPC High Density)
footprint ADI-UJ-6_M (SOT23, 6-Leads, Body 2.9x1.6mm, Pitch 0.95mm, IPC Low Density)
part A pins: 2 GND (power), 3 VIN (power), 4 VOUT (power)
part B pins: 1 NC, 5 NC, 6 NC

## ADR130AUJZ-R2
designator U?
Precision Series Sub-Band Gap Voltage Reference, 1 V Output, 2 to 18 V Supply, Industrial, 6-pin SOT23 (UJ-6), Reel; Manufacturer: Analog Devices; PartNumber: ADR130AUJZ-R2; Max V Supply (V): 18; Min V Supply (V): 2; Ref Out TC (ppm/C): 15; Vout: 0.5V, 1V; DatasheetVersion: Rev. B; PackageVersion: Dec-04; PackageReference: UJ-6; PackageDescription: 6-Pin Thin Small Outline Transistor Package, Body 2.9 x 1.6 mm, Pitch 0.95 mm; Supplier 1: Digi-Key; Supplier Part Number 1: ADR130AUJZ-R2-ND; Supplier 2: Farnell; Supplier Part Number 2: 1699554; Supplier 3: Mouser; Supplier Part Number 3: 584-ADR130AUJZ-R2; Packing: Reel; Operating Temp Range: -40 to 125 degC; Mounting Technology: Surface Mount; Code_JEDEC: MO-193-AA; ComponentLink1Description: Manufacturer URL; ComponentLink1URL: http://www.analog.com/en/index.html; ComponentLink2Description: Datasheet; ComponentLink2URL: http://www.analog.com/static/imported-files/data_sheets/ADR130.pdf; ComponentLink3Description: Package Specification; ComponentLink3URL: http://www.analog.com/static/imported-files/packages/PKG_PDF/TSOT(UJ)/UJ_6.pdf; ComponentLink4Description: URL Link1; ComponentLink4URL: Product URL:http://www.analog.com/en/special-linear-functions/voltage-references/adr130/products/product.html
footprint ADI-UJ-6_N (SOT23, 6-Leads, Body 2.9x1.6mm, Pitch 0.95mm, IPC Medium Density)
footprint ADI-UJ-6_L (SOT23, 6-Leads, Body 2.9x1.6mm, Pitch 0.95mm, IPC High Density)
footprint ADI-UJ-6_M (SOT23, 6-Leads, Body 2.9x1.6mm, Pitch 0.95mm, IPC Low Density)
pins: 1 NC, 2 GND (power), 3 VIN (power), 4 VOUT (power), 5 SET (in), 6 NC

## ADR130AUJZ-REEL7
designator U?
Precision Series Sub-Band Gap Voltage Reference, 1 V Output, 2 to 18 V Supply, Industrial, 6-pin SOT23 (UJ-6), Reel; Manufacturer: Analog Devices; PartNumber: ADR130AUJZ-REEL7; Max V Supply (V): 18; Min V Supply (V): 2; Ref Out TC (ppm/C): 15; Vout: 0.5V, 1V; DatasheetVersion: Rev. B; PackageVersion: Dec-04; PackageReference: UJ-6; PackageDescription: 6-Pin Thin Small Outline Transistor Package, Body 2.9 x 1.6 mm, Pitch 0.95 mm; Supplier 1: Digi-Key; Supplier Part Number 1: ADR130AUJZ-REEL7TR-ND; Supplier 2: Digi-Key; Supplier Part Number 2: ADR130AUJZ-REEL7CT-ND; Supplier 3: Digi-Key; Supplier Part Number 3: ADR130AUJZ-REEL7DKR-ND; Supplier 4: Mouser; Supplier Part Number 4: 584-ADR130AUJZ-R7; Packing: Reel; Operating Temp Range: -40 to 125 degC; Mounting Technology: Surface Mount; Code_JEDEC: MO-193-AA; ComponentLink1Description: Manufacturer URL; ComponentLink1URL: http://www.analog.com/en/index.html; ComponentLink2Description: Datasheet; ComponentLink2URL: http://www.analog.com/static/imported-files/data_sheets/ADR130.pdf; ComponentLink3Description: Package Specification; ComponentLink3URL: http://www.analog.com/static/imported-files/packages/PKG_PDF/TSOT(UJ)/UJ_6.pdf; ComponentLink4Description: URL Link1; ComponentLink4URL: Product URL:http://www.analog.com/en/special-linear-functions/voltage-references/adr130/products/product.html
footprint ADI-UJ-6_N (SOT23, 6-Leads, Body 2.9x1.6mm, Pitch 0.95mm, IPC Medium Density)
footprint ADI-UJ-6_L (SOT23, 6-Leads, Body 2.9x1.6mm, Pitch 0.95mm, IPC High Density)
footprint ADI-UJ-6_M (SOT23, 6-Leads, Body 2.9x1.6mm, Pitch 0.95mm, IPC Low Density)
pins: 1 NC, 2 GND (power), 3 VIN (power), 4 VOUT (power), 5 SET (in), 6 NC

## ADR130BUJZ-R2
designator U?
Precision Series Sub-Band Gap Voltage Reference, 1 V Output, 2 to 18 V Supply, Industrial, 6-pin SOT23 (UJ-6), Reel; Manufacturer: Analog Devices; PartNumber: ADR130BUJZ-R2; Max V Supply (V): 18; Min V Supply (V): 2; Ref Out TC (ppm/C): 5; Vout: 0.5V, 1V; DatasheetVersion: Rev. B; PackageVersion: Dec-04; PackageReference: UJ-6; PackageDescription: 6-Pin Thin Small Outline Transistor Package, Body 2.9 x 1.6 mm, Pitch 0.95 mm; Supplier 1: Digi-Key; Supplier Part Number 1: ADR130BUJZ-R2TR-ND; Supplier 2: Digi-Key; Supplier Part Number 2: ADR130BUJZ-R2CT-ND; Supplier 3: Digi-Key; Supplier Part Number 3: ADR130BUJZ-R2DKR-ND; Supplier 4: Farnell; Supplier Part Number 4: 1699555; Supplier 5: Mouser; Supplier Part Number 5: 584-ADR130BUJZ-R2; Packing: Reel; Operating Temp Range: -40 to 125 degC; Mounting Technology: Surface Mount; Code_JEDEC: MO-193-AA; ComponentLink1Description: Manufacturer URL; ComponentLink1URL: http://www.analog.com/en/index.html; ComponentLink2Description: Datasheet; ComponentLink2URL: http://www.analog.com/static/imported-files/data_sheets/ADR130.pdf; ComponentLink3Description: Package Specification; ComponentLink3URL: http://www.analog.com/static/imported-files/packages/PKG_PDF/TSOT(UJ)/UJ_6.pdf; ComponentLink4Description: URL Link1; ComponentLink4URL: Product URL:http://www.analog.com/en/special-linear-functions/voltage-references/adr130/products/product.html
footprint ADI-UJ-6_N (SOT23, 6-Leads, Body 2.9x1.6mm, Pitch 0.95mm, IPC Medium Density)
footprint ADI-UJ-6_L (SOT23, 6-Leads, Body 2.9x1.6mm, Pitch 0.95mm, IPC High Density)
footprint ADI-UJ-6_M (SOT23, 6-Leads, Body 2.9x1.6mm, Pitch 0.95mm, IPC Low Density)
pins: 1 NC, 2 GND (power), 3 VIN (power), 4 VOUT (power), 5 SET (in), 6 NC

## ADR130BUJZ-REEL7
designator U?
Precision Series Sub-Band Gap Voltage Reference, 1 V Output, 2 to 18 V Supply, Industrial, 6-pin SOT23 (UJ-6), Reel; Manufacturer: Analog Devices; PartNumber: ADR130BUJZ-REEL7; Max V Supply (V): 18; Min V Supply (V): 2; Ref Out TC (ppm/C): 5; Vout: 0.5V, 1V; DatasheetVersion: Rev. B; PackageVersion: Dec-04; PackageReference: UJ-6; PackageDescription: 6-Pin Thin Small Outline Transistor Package, Body 2.9 x 1.6 mm, Pitch 0.95 mm; Supplier 1: Digi-Key; Supplier Part Number 1: ADR130BUJZ-REEL7TR-ND; Supplier 2: Digi-Key; Supplier Part Number 2: ADR130BUJZ-REEL7CT-ND; Supplier 3: Digi-Key; Supplier Part Number 3: ADR130BUJZ-REEL7DKR-ND; Supplier 4: Farnell; Supplier Part Number 4: 2377041; Supplier 5: Mouser; Supplier Part Number 5: 584-ADR130BUJZ-R7; Packing: Reel; Operating Temp Range: -40 to 125 degC; Mounting Technology: Surface Mount; Code_JEDEC: MO-193-AA; ComponentLink1Description: Manufacturer URL; ComponentLink1URL: http://www.analog.com/en/index.html; ComponentLink2Description: Datasheet; ComponentLink2URL: http://www.analog.com/static/imported-files/data_sheets/ADR130.pdf; ComponentLink3Description: Package Specification; ComponentLink3URL: http://www.analog.com/static/imported-files/packages/PKG_PDF/TSOT(UJ)/UJ_6.pdf; ComponentLink4Description: URL Link1; ComponentLink4URL: Product URL:http://www.analog.com/en/special-linear-functions/voltage-references/adr130/products/product.html
footprint ADI-UJ-6_N (SOT23, 6-Leads, Body 2.9x1.6mm, Pitch 0.95mm, IPC Medium Density)
footprint ADI-UJ-6_L (SOT23, 6-Leads, Body 2.9x1.6mm, Pitch 0.95mm, IPC High Density)
footprint ADI-UJ-6_M (SOT23, 6-Leads, Body 2.9x1.6mm, Pitch 0.95mm, IPC Low Density)
pins: 1 NC, 2 GND (power), 3 VIN (power), 4 VOUT (power), 5 SET (in), 6 NC

## ADR280AKSZ-R2
designator U?
Ultralow Power High PSRR Voltage Reference, 1.2 V Output, 2.4 to 5.5 V Supply, Industrial, 3-pin SOT23 (KS-3), Reel; Manufacturer: Analog Devices; PartNumber: ADR280AKSZ-R2; Max V Supply (V): 5.5; Min V Supply (V): 2.4; Ref Out TC (ppm/C): 10; Vout: 1.2V; DatasheetVersion: Rev. C; PackageVersion: 072809-A, 07/2009; PackageReference: KS-3; PackageDescription: 3-Pin Thin Shrink Small Outline Transistor Package, Body 2 x 1.25 mm, Pitch 0.65 mm; Supplier 1: Digi-Key; Supplier Part Number 1: ADR280AKSZ-R2TR-ND; Supplier 2: Digi-Key; Supplier Part Number 2: ADR280AKSZ-R2CT-ND; Supplier 3: Digi-Key; Supplier Part Number 3: ADR280AKSZ-R2DKR-ND; Supplier 4: Mouser; Supplier Part Number 4: 584-ADR280AKSZ-R2; Packing: Reel; Operating Temp Range: -40 to 85 degC; Mounting Technology: Surface Mount; ComponentLink1Description: Manufacturer URL; ComponentLink1URL: http://www.analog.com/en/index.html; ComponentLink2Description: Datasheet; ComponentLink2URL: http://www.analog.com/static/imported-files/data_sheets/ADR280.pdf; ComponentLink3Description: Package Specification; ComponentLink3URL: http:/www.analog.com/static/imported-files/packages/PKG_PDF/SC70(KS)/KS_3.pdf; ComponentLink4Description: URL Link1; ComponentLink4URL: Product URL:http://www.analog.com/en/special-linear-functions/voltage-references/adr280/products/product.html
footprint ADI-KS-3_N (SOT23, 3-Leads, Body 2x1.25mm, Pitch 0.65mm, IPC Medium Density)
footprint ADI-KS-3_L (SOT23, 3-Leads, Body 2x1.25mm, Pitch 0.65mm, IPC High Density)
footprint ADI-KS-3_M (SOT23, 3-Leads, Body 2x1.25mm, Pitch 0.65mm, IPC Low Density)
pins: 1 VOUT (power), 2 V+ (power), 3 V- (power)